# Altium integrated library TI_Logic_Flip-Flop,Latch,Register.IntLib: 2598 symbols (part 81 of 122)
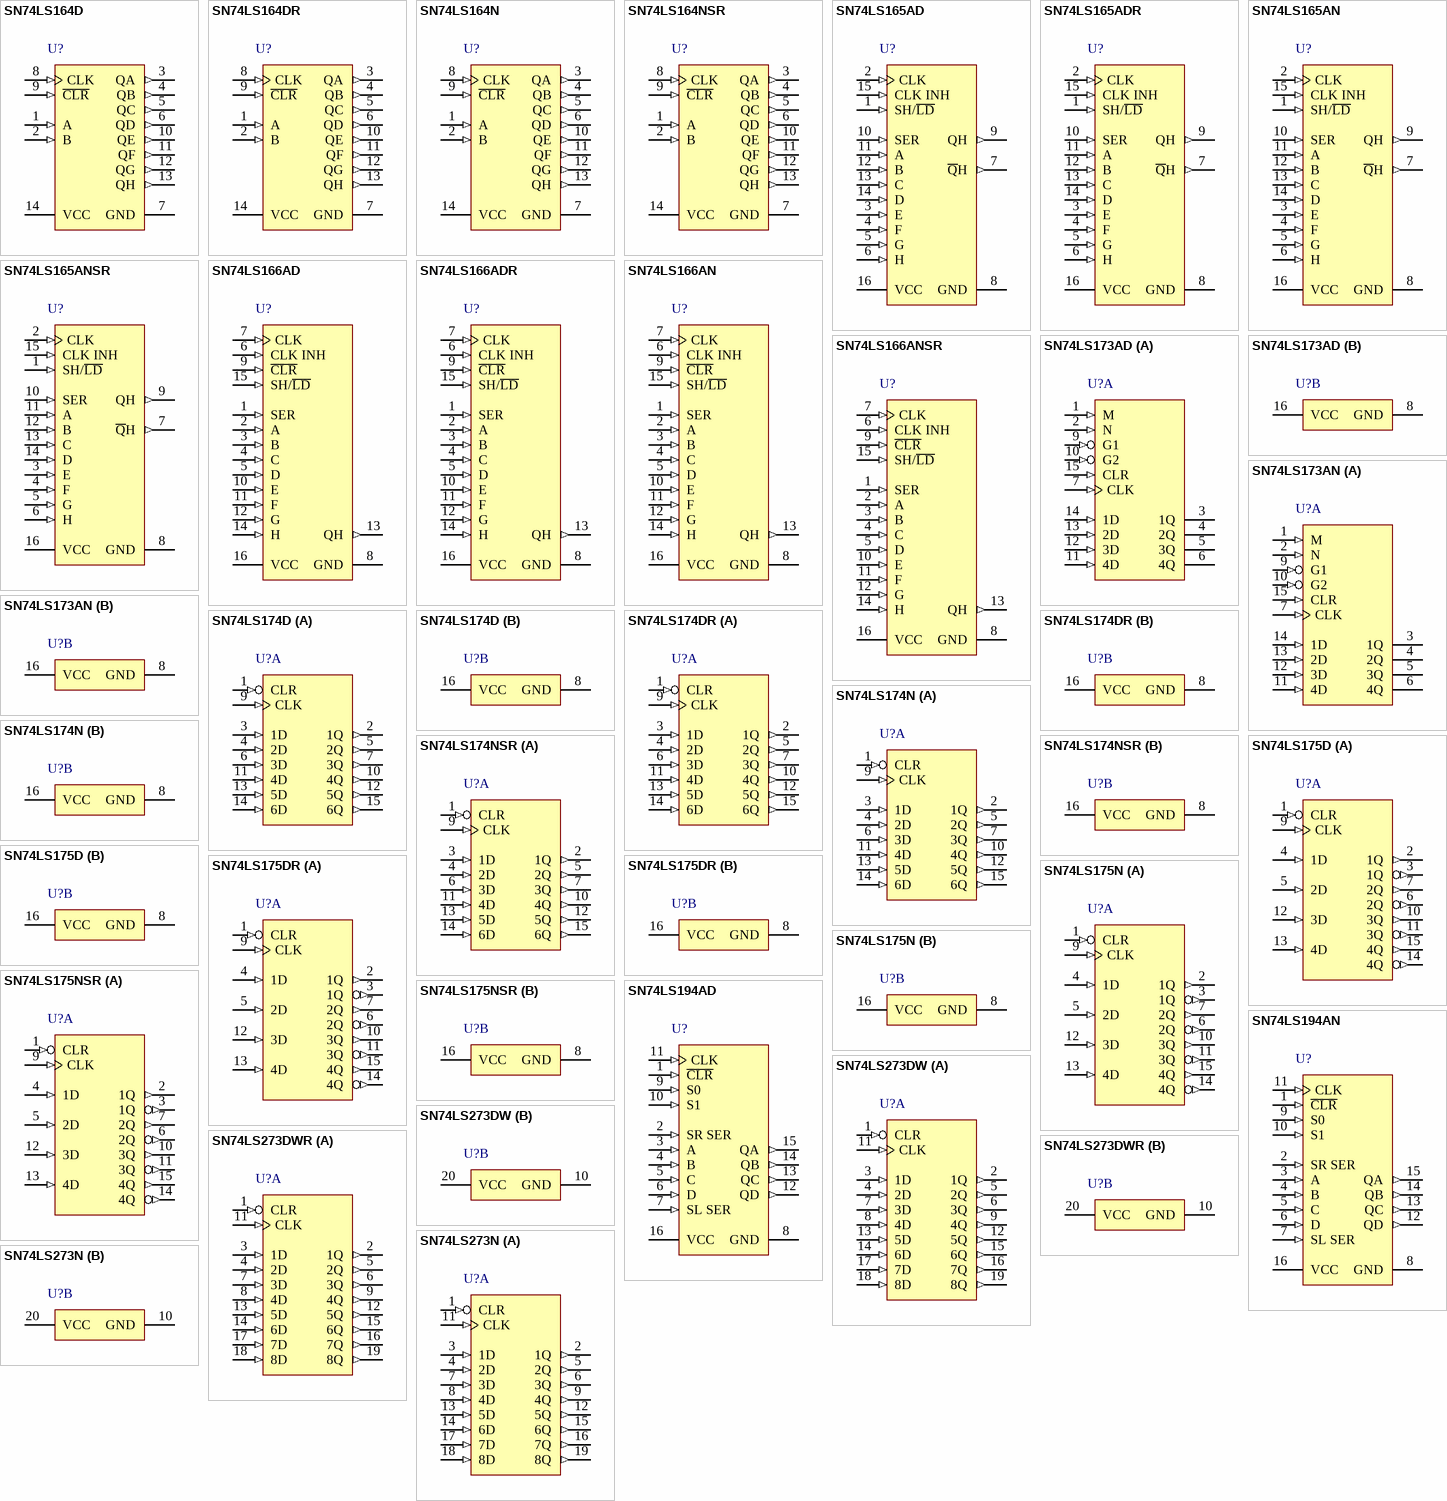
[diagram p219: symbols SN74LS164D to SN74LS273N]

## SN74LS166AN
designator U?
Serial-out shift registers, N0016A, TUBE; Generic Part Number: SN74LS166A; Manufacturer: Texas Instruments; PartNumber: SN74LS166AN; Technology Family: LS; VCC(Min)(V): 4.75; VCC(Max)(V): 5.25; Voltage(Nom)(V): 5; F @ Nom Voltage(Max)(Mhz): 35; ICC @ Nom Voltage(Max)(mA): 32; tpd @ Nom Voltage(Max)(ns): 25; Output Drive (IOL/IOH)(Max)(mA): 8/-0.4; Input Type: TTL; 3-State Output: No; Rating: Catalog; Bits: 8; PackageReference: N0016A; Output Type: TTL; Operating Temperature Range(C): 0 to 70; Code_JEDEC: MS-001; ComponentLink1Description: Manufacturer URL; ComponentLink1URL: http://www.ti.com/; ComponentLink2Description: Datasheet; ComponentLink2URL: http://www.ti.com/lit/ds/symlink/sn74ls166a.pdf; ComponentLink3Description: Package Specification; ComponentLink3URL: http://www.ti.com/lit/ml/mpdi002c/mpdi002c.pdf
footprint N0016A (DIP, 16-Leads, Body 19.7x6.6mm, Pitch 2.54mm)
pins: 1 SER (in), 2 A (in), 3 B (in), 4 C (in), 5 D (in), 6 CLK INH (in), 7 CLK (in), 8 GND (power), 9 ~{CLR} (in), 10 E (in), 11 F (in), 12 G (in), 13 QH (out), 14 H (in), 15 SH/~{LD} (in), 16 VCC (power)

## SN74LS166ANSR
designator U?
Serial-out shift registers, NS0016A, LARGE T&R; Generic Part Number: SN74LS166A; Manufacturer: Texas Instruments; PartNumber: SN74LS166ANSR; Technology Family: LS; VCC(Min)(V): 4.75; VCC(Max)(V): 5.25; Voltage(Nom)(V): 5; F @ Nom Voltage(Max)(Mhz): 35; ICC @ Nom Voltage(Max)(mA): 32; tpd @ Nom Voltage(Max)(ns): 25; Output Drive (IOL/IOH)(Max)(mA): 8/-0.4; Input Type: TTL; 3-State Output: No; Rating: Catalog; Bits: 8; PackageReference: NS0016A; Output Type: TTL; Operating Temperature Range(C): 0 to 70; ComponentLink1Description: Manufacturer URL; ComponentLink1URL: http://www.ti.com/; ComponentLink2Description: Datasheet; ComponentLink2URL: http://www.ti.com/lit/ds/symlink/sn74ls166a.pdf; ComponentLink3Description: Package Specification; ComponentLink3URL: http://www.ti.com/lit/ml/msop002a/msop002a.pdf
footprint NS0016A_N (SOIC,16-Leads,Body 10.5x5.6mm,Pitch 1.27mm,IPC Medium Density)
footprint NS0016A_M (SOIC,16-Leads,Body 10.5x5.6mm,Pitch 1.27mm,IPC Low Density)
footprint NS0016A_L (SOIC,16-Leads,Body 10.5x5.6mm,Pitch 1.27mm,IPC High Density)
pins: 1 SER (in), 2 A (in), 3 B (in), 4 C (in), 5 D (in), 6 CLK INH (in), 7 CLK (in), 8 GND (power), 9 ~{CLR} (in), 10 E (in), 11 F (in), 12 G (in), 13 QH (out), 14 H (in), 15 SH/~{LD} (in), 16 VCC (power)

## SN74LS173AD
designator U?
4-Bit D-type Registers with 3-State Outputs, D0016A, TUBE; Generic Part Number: SN74LS173A; Manufacturer: Texas Instruments; PartNumber: SN74LS173AD; VCC(Min)(V): 4.75; VCC(Max)(V): 5.25; Output Type: TTL; Output: 3S; ICC @ Nom Voltage(Max)(mA): 24; Bits(#): 4; F @ Nom Voltage(Max)(Mhz): 35; Rating: Catalog; Technology Family: LS; Voltage(Nom)(V): 5; Schmitt Trigger: No; Output Drive (IOL/IOH)(Max)(mA): 24/-2.6; Output Logic: Non-inverted; 3-State Output: Yes; tpd @ Nom Voltage(Max)(ns): 30; DatasheetVersion: SDLS067A; PackageReference: D0016A; Supplier 1: Digi-Key; Supplier Part Number 1: 296-33969-5-ND; Supplier 2: Farnell; Supplier Part Number 2: 1750242; Supplier 3: Mouser; Supplier Part Number 3: 595-SN74LS173AD; Input Type: TTL; Operating Temperature Range(C): 0 to 70; Code_JEDEC: MS-012 variation AC; ComponentLink1Description: Manufacturer URL; ComponentLink1URL: http://www.ti.com/; ComponentLink2Description: Datasheet; ComponentLink2URL: http://www.ti.com/lit/ds/symlink/sn74ls173a.pdf; ComponentLink3Description: Package Specification; ComponentLink3URL: http://www.ti.com/lit/ml/mpds178g/mpds178g.pdf
footprint D0016A_N (SOIC, 16-Leads, Body 10x4mm, Pitch 1.27mm, IPC Medium Density)
footprint D0016A_M (SOIC, 16-Leads, Body 10x4mm, Pitch 1.27mm, IPC Low Density)
footprint D0016A_L (SOIC, 16-Leads, Body 10x4mm, Pitch 1.27mm, IPC High Density)
part A pins: 1 M (in), 2 N (in), 3 1Q (hiz), 4 2Q (hiz), 5 3Q (hiz), 6 4Q (hiz), 7 CLK (in), 9 G1 (in), 10 G2 (in), 11 4D (in), 12 3D (in), 13 2D (in), 14 1D (in), 15 CLR (in)
part B pins: 8 GND (power), 16 VCC (power)

## SN74LS173AN
designator U?
4-Bit D-type Registers with 3-State Outputs, N0016A, TUBE; Generic Part Number: SN74LS173A; Manufacturer: Texas Instruments; PartNumber: SN74LS173AN; VCC(Min)(V): 4.75; VCC(Max)(V): 5.25; Output Type: TTL; Output: 3S; ICC @ Nom Voltage(Max)(mA): 24; Bits(#): 4; F @ Nom Voltage(Max)(Mhz): 35; Rating: Catalog; Technology Family: LS; Voltage(Nom)(V): 5; Schmitt Trigger: No; Output Drive (IOL/IOH)(Max)(mA): 24/-2.6; Output Logic: Non-inverted; 3-State Output: Yes; tpd @ Nom Voltage(Max)(ns): 30; DatasheetVersion: SDLS067A; PackageReference: N0016A; Supplier 1: Digi-Key; Supplier Part Number 1: 296-33970-5-ND; Supplier 2: Farnell; Supplier Part Number 2: 1740121; Supplier 3: Newark; Supplier Part Number 3: 50R6527; Supplier 4: Mouser; Supplier Part Number 4: 595-SN74LS173AN; Input Type: TTL; Operating Temperature Range(C): 0 to 70; Code_JEDEC: MS-001; ComponentLink1Description: Manufacturer URL; ComponentLink1URL: http://www.ti.com/; ComponentLink2Description: Datasheet; ComponentLink2URL: http://www.ti.com/lit/ds/symlink/sn74ls173a.pdf; ComponentLink3Description: Package Specification; ComponentLink3URL: http://www.ti.com/lit/ml/mpdi002c/mpdi002c.pdf
footprint N0016A (DIP, 16-Leads, Body 19.7x6.6mm, Pitch 2.54mm)
part A pins: 1 M (in), 2 N (in), 3 1Q (hiz), 4 2Q (hiz), 5 3Q (hiz), 6 4Q (hiz), 7 CLK (in), 9 G1 (in), 10 G2 (in), 11 4D (in), 12 3D (in), 13 2D (in), 14 1D (in), 15 CLR (in)
part B pins: 8 GND (power), 16 VCC (power)

## SN74LS174D
designator U?
Hex D-Type Flip-Flops With Clear, D0016A, TUBE; Generic Part Number: SN74LS174; Manufacturer: Texas Instruments; PartNumber: SN74LS174D; VCC(Min)(V): 4.75; VCC(Max)(V): 5.25; Output Type: TTL; Output: 2S; ICC @ Nom Voltage(Max)(mA): 26; Bits(#): 6; F @ Nom Voltage(Max)(Mhz): 35; Rating: Catalog; Technology Family: LS; Voltage(Nom)(V): 5; Schmitt Trigger: No; Output Drive (IOL/IOH)(Max)(mA): 8/-0.4; Output Logic: Inverted,Non-inverted; tpd @ Nom Voltage(Max)(ns): 30; DatasheetVersion: SDLS068A; PackageReference: D0016A; Supplier 1: Digi-Key; Supplier Part Number 1: 296-33971-5-ND; Supplier 2: Farnell; Supplier Part Number 2: 1750034; Supplier 3: Newark; Supplier Part Number 3: 50R6528; Supplier 4: Mouser; Supplier Part Number 4: 595-SN74LS174D; Input Type: TTL; Operating Temperature Range(C): 0 to 70; 3-State Output: No; Code_JEDEC: MS-012 variation AC; ComponentLink1Description: Manufacturer URL; ComponentLink1URL: http://www.ti.com/; ComponentLink2Description: Datasheet; ComponentLink2URL: http://www.ti.com/lit/ds/symlink/sn74ls174.pdf; ComponentLink3Description: Package Specification; ComponentLink3URL: http://www.ti.com/lit/ml/mpds178g/mpds178g.pdf
footprint D0016A_N (SOIC, 16-Leads, Body 10x4mm, Pitch 1.27mm, IPC Medium Density)
footprint D0016A_M (SOIC, 16-Leads, Body 10x4mm, Pitch 1.27mm, IPC Low Density)
footprint D0016A_L (SOIC, 16-Leads, Body 10x4mm, Pitch 1.27mm, IPC High Density)
part A pins: 1 CLR (in), 2 1Q (out), 3 1D (in), 4 2D (in), 5 2Q (out), 6 3D (in), 7 3Q (out), 9 CLK (in), 10 4Q (out), 11 4D (in), 12 5Q (out), 13 5D (in), 14 6D (in), 15 6Q (out)
part B pins: 8 GND (power), 16 VCC (power)

## SN74LS174DR
designator U?
Hex D-Type Flip-Flops With Clear, D0016A, LARGE T&R; Generic Part Number: SN74LS174; Manufacturer: Texas Instruments; PartNumber: SN74LS174DR; VCC(Min)(V): 4.75; VCC(Max)(V): 5.25; Output Type: TTL; Output: 2S; ICC @ Nom Voltage(Max)(mA): 26; Bits(#): 6; F @ Nom Voltage(Max)(Mhz): 35; Rating: Catalog; Technology Family: LS; Voltage(Nom)(V): 5; Schmitt Trigger: No; Output Drive (IOL/IOH)(Max)(mA): 8/-0.4; Output Logic: Inverted,Non-inverted; tpd @ Nom Voltage(Max)(ns): 30; DatasheetVersion: SDLS068A; PackageReference: D0016A; Supplier 1: Digi-Key; Supplier Part Number 1: SN74LS174DR-ND; Supplier 2: Mouser; Supplier Part Number 2: 595-SN74LS174DR; Input Type: TTL; Operating Temperature Range(C): 0 to 70; 3-State Output: No; Code_JEDEC: MS-012 variation AC; ComponentLink1Description: Manufacturer URL; ComponentLink1URL: http://www.ti.com/; ComponentLink2Description: Datasheet; ComponentLink2URL: http://www.ti.com/lit/ds/symlink/sn74ls174.pdf; ComponentLink3Description: Package Specification; ComponentLink3URL: http://www.ti.com/lit/ml/mpds178g/mpds178g.pdf
footprint D0016A_N (SOIC, 16-Leads, Body 10x4mm, Pitch 1.27mm, IPC Medium Density)
footprint D0016A_M (SOIC, 16-Leads, Body 10x4mm, Pitch 1.27mm, IPC Low Density)
footprint D0016A_L (SOIC, 16-Leads, Body 10x4mm, Pitch 1.27mm, IPC High Density)
part A pins: 1 CLR (in), 2 1Q (out), 3 1D (in), 4 2D (in), 5 2Q (out), 6 3D (in), 7 3Q (out), 9 CLK (in), 10 4Q (out), 11 4D (in), 12 5Q (out), 13 5D (in), 14 6D (in), 15 6Q (out)
part B pins: 8 GND (power), 16 VCC (power)

## SN74LS174N
designator U?
Hex D-Type Flip-Flops With Clear, N0016A, TUBE; Generic Part Number: SN74LS174; Manufacturer: Texas Instruments; PartNumber: SN74LS174N; VCC(Min)(V): 4.75; VCC(Max)(V): 5.25; Output Type: TTL; Output: 2S; ICC @ Nom Voltage(Max)(mA): 26; Bits(#): 6; F @ Nom Voltage(Max)(Mhz): 35; Rating: Catalog; Technology Family: LS; Voltage(Nom)(V): 5; Schmitt Trigger: No; Output Drive (IOL/IOH)(Max)(mA): 8/-0.4; Output Logic: Inverted,Non-inverted; tpd @ Nom Voltage(Max)(ns): 30; DatasheetVersion: SDLS068A; PackageReference: N0016A; Supplier 1: Digi-Key; Supplier Part Number 1: 296-3664-5-ND; Supplier 2: Farnell; Supplier Part Number 2: 1652029; Supplier 3: Newark; Supplier Part Number 3: 63K6343; Supplier 4: Mouser; Supplier Part Number 4: 595-SN74LS174N; Input Type: TTL; Operating Temperature Range(C): 0 to 70; 3-State Output: No; Code_JEDEC: MS-001; ComponentLink1Description: Manufacturer URL; ComponentLink1URL: http://www.ti.com/; ComponentLink2Description: Datasheet; ComponentLink2URL: http://www.ti.com/lit/ds/symlink/sn74ls174.pdf; ComponentLink3Description: Package Specification; ComponentLink3URL: http://www.ti.com/lit/ml/mpdi002c/mpdi002c.pdf
footprint N0016A (DIP, 16-Leads, Body 19.7x6.6mm, Pitch 2.54mm)
part A pins: 1 CLR (in), 2 1Q (out), 3 1D (in), 4 2D (in), 5 2Q (out), 6 3D (in), 7 3Q (out), 9 CLK (in), 10 4Q (out), 11 4D (in), 12 5Q (out), 13 5D (in), 14 6D (in), 15 6Q (out)
part B pins: 8 GND (power), 16 VCC (power)

## SN74LS174NSR
designator U?
Hex D-Type Flip-Flops With Clear, NS0016A, LARGE T&R; Generic Part Number: SN74LS174; Manufacturer: Texas Instruments; PartNumber: SN74LS174NSR; VCC(Min)(V): 4.75; VCC(Max)(V): 5.25; Output Type: TTL; Output: 2S; ICC @ Nom Voltage(Max)(mA): 26; Bits(#): 6; F @ Nom Voltage(Max)(Mhz): 35; Rating: Catalog; Technology Family: LS; Voltage(Nom)(V): 5; Schmitt Trigger: No; Output Drive (IOL/IOH)(Max)(mA): 8/-0.4; Output Logic: Inverted,Non-inverted; tpd @ Nom Voltage(Max)(ns): 30; DatasheetVersion: SDLS068A; PackageReference: NS0016A; Supplier 1: Digi-Key; Supplier Part Number 1: 296-28877-2-ND; Supplier 2: Digi-Key; Supplier Part Number 2: 296-28877-1-ND; Supplier 3: Digi-Key; Supplier Part Number 3: 296-28877-6-ND; Supplier 4: Mouser; Supplier Part Number 4: 595-SN74LS174NSR; Input Type: TTL; Operating Temperature Range(C): 0 to 70; 3-State Output: No; ComponentLink1Description: Manufacturer URL; ComponentLink1URL: http://www.ti.com/; ComponentLink2Description: Datasheet; ComponentLink2URL: http://www.ti.com/lit/ds/symlink/sn74ls174.pdf; ComponentLink3Description: Package Specification; ComponentLink3URL: http://www.ti.com/lit/ml/msop002a/msop002a.pdf
footprint NS0016A_N (SOIC,16-Leads,Body 10.5x5.6mm,Pitch 1.27mm,IPC Medium Density)
footprint NS0016A_M (SOIC,16-Leads,Body 10.5x5.6mm,Pitch 1.27mm,IPC Low Density)
footprint NS0016A_L (SOIC,16-Leads,Body 10.5x5.6mm,Pitch 1.27mm,IPC High Density)
part A pins: 1 CLR (in), 2 1Q (out), 3 1D (in), 4 2D (in), 5 2Q (out), 6 3D (in), 7 3Q (out), 9 CLK (in), 10 4Q (out), 11 4D (in), 12 5Q (out), 13 5D (in), 14 6D (in), 15 6Q (out)
part B pins: 8 GND (power), 16 VCC (power)

## SN74LS175D
designator U?
Quadruple D-Type Flip-Flops With Clear, D0016A, TUBE; Generic Part Number: SN74LS175; Manufacturer: Texas Instruments; PartNumber: SN74LS175D; VCC(Min)(V): 4.75; VCC(Max)(V): 5.25; Output Type: TTL; Output: 2S; ICC @ Nom Voltage(Max)(mA): 18; Bits(#): 4; F @ Nom Voltage(Max)(Mhz): 35; Rating: Catalog; Technology Family: LS; Voltage(Nom)(V): 5; Schmitt Trigger: No; Output Drive (IOL/IOH)(Max)(mA): 8/-0.4; Output Logic: Inverted,Non-inverted; tpd @ Nom Voltage(Max)(ns): 25; DatasheetVersion: SDLS068A; PackageReference: D0016A; Supplier 1: Digi-Key; Supplier Part Number 1: 296-33972-5-ND; Supplier 2: Farnell; Supplier Part Number 2: 1750035; Supplier 3: Newark; Supplier Part Number 3: 08F6923; Supplier 4: Mouser; Supplier Part Number 4: 595-SN74LS175D; Input Type: TTL; Operating Temperature Range(C): 0 to 70; 3-State Output: No; Code_JEDEC: MS-012 variation AC; ComponentLink1Description: Manufacturer URL; ComponentLink1URL: http://www.ti.com/; ComponentLink2Description: Datasheet; ComponentLink2URL: http://www.ti.com/lit/ds/symlink/sn74ls175.pdf; ComponentLink3Description: Package Specification; ComponentLink3URL: http://www.ti.com/lit/ml/mpds178g/mpds178g.pdf
footprint D0016A_N (SOIC, 16-Leads, Body 10x4mm, Pitch 1.27mm, IPC Medium Density)
footprint D0016A_M (SOIC, 16-Leads, Body 10x4mm, Pitch 1.27mm, IPC Low Density)
footprint D0016A_L (SOIC, 16-Leads, Body 10x4mm, Pitch 1.27mm, IPC High Density)
part A pins: 1 CLR (in), 2 1Q (out), 3 1Q (out), 4 1D (in), 5 2D (in), 6 2Q (out), 7 2Q (out), 9 CLK (in), 10 3Q (out), 11 3Q (out), 12 3D (in), 13 4D (in), 14 4Q (out), 15 4Q (out)
part B pins: 8 GND (power), 16 VCC (power)

## SN74LS175DR
designator U?
Quadruple D-Type Flip-Flops With Clear, D0016A, LARGE T&R; Generic Part Number: SN74LS175; Manufacturer: Texas Instruments; PartNumber: SN74LS175DR; VCC(Min)(V): 4.75; VCC(Max)(V): 5.25; Output Type: TTL; Output: 2S; ICC @ Nom Voltage(Max)(mA): 18; Bits(#): 4; F @ Nom Voltage(Max)(Mhz): 35; Rating: Catalog; Technology Family: LS; Voltage(Nom)(V): 5; Schmitt Trigger: No; Output Drive (IOL/IOH)(Max)(mA): 8/-0.4; Output Logic: Inverted,Non-inverted; tpd @ Nom Voltage(Max)(ns): 25; DatasheetVersion: SDLS068A; PackageReference: D0016A; Supplier 1: Digi-Key; Supplier Part Number 1: 296-31855-2-ND; Supplier 2: Digi-Key; Supplier Part Number 2: 296-31855-1-ND; Supplier 3: Digi-Key; Supplier Part Number 3: 296-31855-6-ND; Supplier 4: Mouser; Supplier Part Number 4: 595-SN74LS175DR; Input Type: TTL; Operating Temperature Range(C): 0 to 70; 3-State Output: No; Code_JEDEC: MS-012 variation AC; ComponentLink1Description: Manufacturer URL; ComponentLink1URL: http://www.ti.com/; ComponentLink2Description: Datasheet; ComponentLink2URL: http://www.ti.com/lit/ds/symlink/sn74ls175.pdf; ComponentLink3Description: Package Specification; ComponentLink3URL: http://www.ti.com/lit/ml/mpds178g/mpds178g.pdf
footprint D0016A_N (SOIC, 16-Leads, Body 10x4mm, Pitch 1.27mm, IPC Medium Density)
footprint D0016A_M (SOIC, 16-Leads, Body 10x4mm, Pitch 1.27mm, IPC Low Density)
footprint D0016A_L (SOIC, 16-Leads, Body 10x4mm, Pitch 1.27mm, IPC High Density)
part A pins: 1 CLR (in), 2 1Q (out), 3 1Q (out), 4 1D (in), 5 2D (in), 6 2Q (out), 7 2Q (out), 9 CLK (in), 10 3Q (out), 11 3Q (out), 12 3D (in), 13 4D (in), 14 4Q (out), 15 4Q (out)
part B pins: 8 GND (power), 16 VCC (power)

## SN74LS175N
designator U?
Quadruple D-Type Flip-Flops With Clear, N0016A, TUBE; Generic Part Number: SN74LS175; Manufacturer: Texas Instruments; PartNumber: SN74LS175N; VCC(Min)(V): 4.75; VCC(Max)(V): 5.25; Output Type: TTL; Output: 2S; ICC @ Nom Voltage(Max)(mA): 18; Bits(#): 4; F @ Nom Voltage(Max)(Mhz): 35; Rating: Catalog; Technology Family: LS; Voltage(Nom)(V): 5; Schmitt Trigger: No; Output Drive (IOL/IOH)(Max)(mA): 8/-0.4; Output Logic: Inverted,Non-inverted; tpd @ Nom Voltage(Max)(ns): 25; DatasheetVersion: SDLS068A; PackageReference: N0016A; Supplier 1: Digi-Key; Supplier Part Number 1: 296-1648-5-ND; Supplier 2: Farnell; Supplier Part Number 2: 1607731; Supplier 3: Newark; Supplier Part Number 3: 08F6926; Supplier 4: Mouser; Supplier Part Number 4: 595-SN74LS175N; Input Type: TTL; Operating Temperature Range(C): 0 to 70; 3-State Output: No; Code_JEDEC: MS-001; ComponentLink1Description: Manufacturer URL; ComponentLink1URL: http://www.ti.com/; ComponentLink2Description: Datasheet; ComponentLink2URL: http://www.ti.com/lit/ds/symlink/sn74ls175.pdf; ComponentLink3Description: Package Specification; ComponentLink3URL: http://www.ti.com/lit/ml/mpdi002c/mpdi002c.pdf
footprint N0016A (DIP, 16-Leads, Body 19.7x6.6mm, Pitch 2.54mm)
part A pins: 1 CLR (in), 2 1Q (out), 3 1Q (out), 4 1D (in), 5 2D (in), 6 2Q (out), 7 2Q (out), 9 CLK (in), 10 3Q (out), 11 3Q (out), 12 3D (in), 13 4D (in), 14 4Q (out), 15 4Q (out)
part B pins: 8 GND (power), 16 VCC (power)

## SN74LS175NSR
designator U?
Quadruple D-Type Flip-Flops With Clear, NS0016A, LARGE T&R; Generic Part Number: SN74LS175; Manufacturer: Texas Instruments; PartNumber: SN74LS175NSR; VCC(Min)(V): 4.75; VCC(Max)(V): 5.25; Output Type: TTL; Output: 2S; ICC @ Nom Voltage(Max)(mA): 18; Bits(#): 4; F @ Nom Voltage(Max)(Mhz): 35; Rating: Catalog; Technology Family: LS; Voltage(Nom)(V): 5; Schmitt Trigger: No; Output Drive (IOL/IOH)(Max)(mA): 8/-0.4; Output Logic: Inverted,Non-inverted; tpd @ Nom Voltage(Max)(ns): 25; DatasheetVersion: SDLS068A; PackageReference: NS0016A; Supplier 1: Digi-Key; Supplier Part Number 1: 296-28719-2-ND; Supplier 2: Digi-Key; Supplier Part Number 2: 296-28719-1-ND; Supplier 3: Digi-Key; Supplier Part Number 3: 296-28719-6-ND; Supplier 4: Mouser; Supplier Part Number 4: 595-SN74LS175NSR; Input Type: TTL; Operating Temperature Range(C): 0 to 70; 3-State Output: No; ComponentLink1Description: Manufacturer URL; ComponentLink1URL: http://www.ti.com/; ComponentLink2Description: Datasheet; ComponentLink2URL: http://www.ti.com/lit/ds/symlink/sn74ls175.pdf; ComponentLink3Description: Package Specification; ComponentLink3URL: http://www.ti.com/lit/ml/msop002a/msop002a.pdf
footprint NS0016A_N (SOIC,16-Leads,Body 10.5x5.6mm,Pitch 1.27mm,IPC Medium Density)
footprint NS0016A_M (SOIC,16-Leads,Body 10.5x5.6mm,Pitch 1.27mm,IPC Low Density)
footprint NS0016A_L (SOIC,16-Leads,Body 10.5x5.6mm,Pitch 1.27mm,IPC High Density)
part A pins: 1 CLR (in), 2 1Q (out), 3 1Q (out), 4 1D (in), 5 2D (in), 6 2Q (out), 7 2Q (out), 9 CLK (in), 10 3Q (out), 11 3Q (out), 12 3D (in), 13 4D (in), 14 4Q (out), 15 4Q (out)
part B pins: 8 GND (power), 16 VCC (power)

## SN74LS194AD
designator U?
Bidirectional universal shift registers, D0016A, TUBE; Generic Part Number: SN74LS194A; Manufacturer: Texas Instruments; PartNumber: SN74LS194AD; Technology Family: LS; VCC(Min)(V): 4.75; VCC(Max)(V): 5.25; Voltage(Nom)(V): 5; F @ Nom Voltage(Max)(Mhz): 35; ICC @ Nom Voltage(Max)(mA): 23; tpd @ Nom Voltage(Max)(ns): 26; Output Drive (IOL/IOH)(Max)(mA): 8/-0.4; Input Type: TTL; 3-State Output: No; Rating: Catalog; Bits: 8; DatasheetVersion: SDLS075; PackageReference: D0016A; Output Type: TTL; Operating Temperature Range(C): 0 to 70; Code_JEDEC: MS-012 variation AC; ComponentLink1Description: Manufacturer URL; ComponentLink1URL: http://www.ti.com/; ComponentLink2Description: Datasheet; ComponentLink2URL: http://www.ti.com/lit/ds/symlink/sn74ls194a.pdf; ComponentLink3Description: Package Specification; ComponentLink3URL: http://www.ti.com/lit/ml/mpds178g/mpds178g.pdf
footprint D0016A_N (SOIC, 16-Leads, Body 10x4mm, Pitch 1.27mm, IPC Medium Density)
footprint D0016A_M (SOIC, 16-Leads, Body 10x4mm, Pitch 1.27mm, IPC Low Density)
footprint D0016A_L (SOIC, 16-Leads, Body 10x4mm, Pitch 1.27mm, IPC High Density)
pins: 1 ~{CLR} (in), 2 SR SER (in), 3 A (in), 4 B (in), 5 C (in), 6 D (in), 7 SL SER (in), 8 GND (power), 9 S0 (in), 10 S1 (in), 11 CLK (in), 12 QD (out), 13 QC (out), 14 QB (out), 15 QA (out), 16 VCC (power)

## SN74LS194AN
designator U?
Bidirectional universal shift registers, N0016A, TUBE; Generic Part Number: SN74LS194A; Manufacturer: Texas Instruments; PartNumber: SN74LS194AN; Technology Family: LS; VCC(Min)(V): 4.75; VCC(Max)(V): 5.25; Voltage(Nom)(V): 5; F @ Nom Voltage(Max)(Mhz): 35; ICC @ Nom Voltage(Max)(mA): 23; tpd @ Nom Voltage(Max)(ns): 26; Output Drive (IOL/IOH)(Max)(mA): 8/-0.4; Input Type: TTL; 3-State Output: No; Rating: Catalog; Bits: 8; DatasheetVersion: SDLS075; PackageReference: N0016A; Output Type: TTL; Operating Temperature Range(C): 0 to 70; Code_JEDEC: MS-001; ComponentLink1Description: Manufacturer URL; ComponentLink1URL: http://www.ti.com/; ComponentLink2Description: Datasheet; ComponentLink2URL: http://www.ti.com/lit/ds/symlink/sn74ls194a.pdf; ComponentLink3Description: Package Specification; ComponentLink3URL: http://www.ti.com/lit/ml/mpdi002c/mpdi002c.pdf
footprint N0016A (DIP, 16-Leads, Body 19.7x6.6mm, Pitch 2.54mm)
pins: 1 ~{CLR} (in), 2 SR SER (in), 3 A (in), 4 B (in), 5 C (in), 6 D (in), 7 SL SER (in), 8 GND (power), 9 S0 (in), 10 S1 (in), 11 CLK (in), 12 QD (out), 13 QC (out), 14 QB (out), 15 QA (out), 16 VCC (power)

## SN74LS273DW
designator U?
Octal D-Type Flip-Flops With Clear, DW0020A, TUBE; Generic Part Number: SN74LS273; Manufacturer: Texas Instruments; PartNumber: SN74LS273DW; VCC(Min)(V): 4.75; VCC(Max)(V): 5.25; Output Type: TTL; Output: 2S; ICC @ Nom Voltage(Max)(mA): 27; Bits(#): 8; F @ Nom Voltage(Max)(Mhz): 35; Rating: Catalog; Technology Family: LS; Voltage(Nom)(V): 5; Schmitt Trigger: No; Output Drive (IOL/IOH)(Max)(mA): 8/-0.4; Output Logic: Non-inverted; DatasheetVersion: SDLS090; PackageReference: DW0020A; Supplier 1: Digi-Key; Supplier Part Number 1: 296-26512-5-ND; Supplier 2: Farnell; Supplier Part Number 2: 1287537; Supplier 3: Newark; Supplier Part Number 3: 08F7145; Supplier 4: Mouser; Supplier Part Number 4: 595-SN74LS273DW; Input Type: TTL; Operating Temperature Range(C): 0 to 70; 3-State Output: No; tpd @ Nom Voltage(Max)(ns): 27; Code_JEDEC: MS-013; ComponentLink1Description: Manufacturer URL; ComponentLink1URL: http://www.ti.com/; ComponentLink2Description: Datasheet; ComponentLink2URL: http://www.ti.com/lit/ds/symlink/sn74ls273.pdf; ComponentLink3Description: Package Specification; ComponentLink3URL: http://www.ti.com/lit/ml/mpds173a/mpds173a.pdf
footprint DW0020A_N (SOIC, 20-Leads, Body 13x7.6mm, Pitch 1.27mm, IPC Medium Density)
footprint DW0020A_M (SOIC, 20-Leads, Body 13x7.6mm, Pitch 1.27mm, IPC Low Density)
footprint DW0020A_L (SOIC, 20-Leads, Body 13x7.6mm, Pitch 1.27mm, IPC High Density)
part A pins: 1 CLR (in) "Clear Pin", 2 1Q (out) "1Q Output", 3 1D (in) "1D Input", 4 2D (in) "2D Input", 5 2Q (out) "2Q Output", 6 3Q (out) "3Q Output", 7 3D (in) "3D Input", 8 4D (in) "4D Input", 9 4Q (out) "4Q Output", 11 CLK (in) "Clock Pin", 12 5Q (out) "5Q Output", 13 5D (in) "5D Input", 14 6D (in) "6D Input", 15 6Q (out) "6Q Output", 16 7Q (out) "7Q Output", 17 7D (in) "7D Input", 18 8D (in) "8D Input", 19 8Q (out) "8Q Output"
part B pins: 10 GND (power) "Ground Pin", 20 VCC (power) "Power Pin"

## SN74LS273DWR
designator U?
Octal D-Type Flip-Flops With Clear, DW0020A, LARGE T&R; Generic Part Number: SN74LS273; Manufacturer: Texas Instruments; PartNumber: SN74LS273DWR; VCC(Min)(V): 4.75; VCC(Max)(V): 5.25; Output Type: TTL; Output: 2S; ICC @ Nom Voltage(Max)(mA): 27; Bits(#): 8; F @ Nom Voltage(Max)(Mhz): 35; Rating: Catalog; Technology Family: LS; Voltage(Nom)(V): 5; Schmitt Trigger: No; Output Drive (IOL/IOH)(Max)(mA): 8/-0.4; Output Logic: Non-inverted; DatasheetVersion: SDLS090; PackageReference: DW0020A; Supplier 1: Digi-Key; Supplier Part Number 1: 296-3682-2-ND; Supplier 2: Digi-Key; Supplier Part Number 2: 296-3682-1-ND; Supplier 3: Digi-Key; Supplier Part Number 3: 296-3682-6-ND; Supplier 4: Newark; Supplier Part Number 4: 76C3776; Supplier 5: Mouser; Supplier Part Number 5: 595-SN74LS273DWR; Input Type: TTL; Operating Temperature Range(C): 0 to 70; 3-State Output: No; tpd @ Nom Voltage(Max)(ns): 27; Code_JEDEC: MS-013; ComponentLink1Description: Manufacturer URL; ComponentLink1URL: http://www.ti.com/; ComponentLink2Description: Datasheet; ComponentLink2URL: http://www.ti.com/lit/ds/symlink/sn74ls273.pdf; ComponentLink3Description: Package Specification; ComponentLink3URL: http://www.ti.com/lit/ml/mpds173a/mpds173a.pdf
footprint DW0020A_N (SOIC, 20-Leads, Body 13x7.6mm, Pitch 1.27mm, IPC Medium Density)
footprint DW0020A_M (SOIC, 20-Leads, Body 13x7.6mm, Pitch 1.27mm, IPC Low Density)
footprint DW0020A_L (SOIC, 20-Leads, Body 13x7.6mm, Pitch 1.27mm, IPC High Density)
part A pins: 1 CLR (in) "Clear Pin", 2 1Q (out) "1Q Output", 3 1D (in) "1D Input", 4 2D (in) "2D Input", 5 2Q (out) "2Q Output", 6 3Q (out) "3Q Output", 7 3D (in) "3D Input", 8 4D (in) "4D Input", 9 4Q (out) "4Q Output", 11 CLK (in) "Clock Pin", 12 5Q (out) "5Q Output", 13 5D (in) "5D Input", 14 6D (in) "6D Input", 15 6Q (out) "6Q Output", 16 7Q (out) "7Q Output", 17 7D (in) "7D Input", 18 8D (in) "8D Input", 19 8Q (out) "8Q Output"
part B pins: 10 GND (power) "Ground Pin", 20 VCC (power) "Power Pin"

## SN74LS273N
designator U?
Octal D-Type Flip-Flops With Clear, N0020A, TUBE; Generic Part Number: SN74LS273; Manufacturer: Texas Instruments; PartNumber: SN74LS273N; VCC(Min)(V): 4.75; VCC(Max)(V): 5.25; Output Type: TTL; Output: 2S; ICC @ Nom Voltage(Max)(mA): 27; Bits(#): 8; F @ Nom Voltage(Max)(Mhz): 35; Rating: Catalog; Technology Family: LS; Voltage(Nom)(V): 5; Schmitt Trigger: No; Output Drive (IOL/IOH)(Max)(mA): 8/-0.4; Output Logic: Non-inverted; DatasheetVersion: SDLS090; PackageReference: N0020A; Supplier 1: Digi-Key; Supplier Part Number 1: 296-1657-5-ND; Supplier 2: Farnell; Supplier Part Number 2: 1470820; Supplier 3: Newark; Supplier Part Number 3: 60K6876; Supplier 4: Mouser; Supplier Part Number 4: 595-SN74LS273N; Input Type: TTL; Operating Temperature Range(C): 0 to 70; 3-State Output: No; tpd @ Nom Voltage(Max)(ns): 27; Code_JEDEC: MS-001; ComponentLink1Description: Manufacturer URL; ComponentLink1URL: http://www.ti.com/; ComponentLink2Description: Datasheet; ComponentLink2URL: http://www.ti.com/lit/ds/symlink/sn74ls273.pdf; ComponentLink3Description: Package Specification; ComponentLink3URL: http://www.ti.com/lit/ml/mpdi002c/mpdi002c.pdf
footprint N0020A (DIP, 20-Leads, Body 26.9x6.6mm, Pitch 2.54mm)
part A pins: 1 CLR (in) "Clear Pin", 2 1Q (out) "1Q Output", 3 1D (in) "1D Input", 4 2D (in) "2D Input", 5 2Q (out) "2Q Output", 6 3Q (out) "3Q Output", 7 3D (in) "3D Input", 8 4D (in) "4D Input", 9 4Q (out) "4Q Output", 11 CLK (in) "Clock Pin", 12 5Q (out) "5Q Output", 13 5D (in) "5D Input", 14 6D (in) "6D Input", 15 6Q (out) "6Q Output", 16 7Q (out) "7Q Output", 17 7D (in) "7D Input", 18 8D (in) "8D Input", 19 8Q (out) "8Q Output"
part B pins: 10 GND (power) "Ground Pin", 20 VCC (power) "Power Pin"

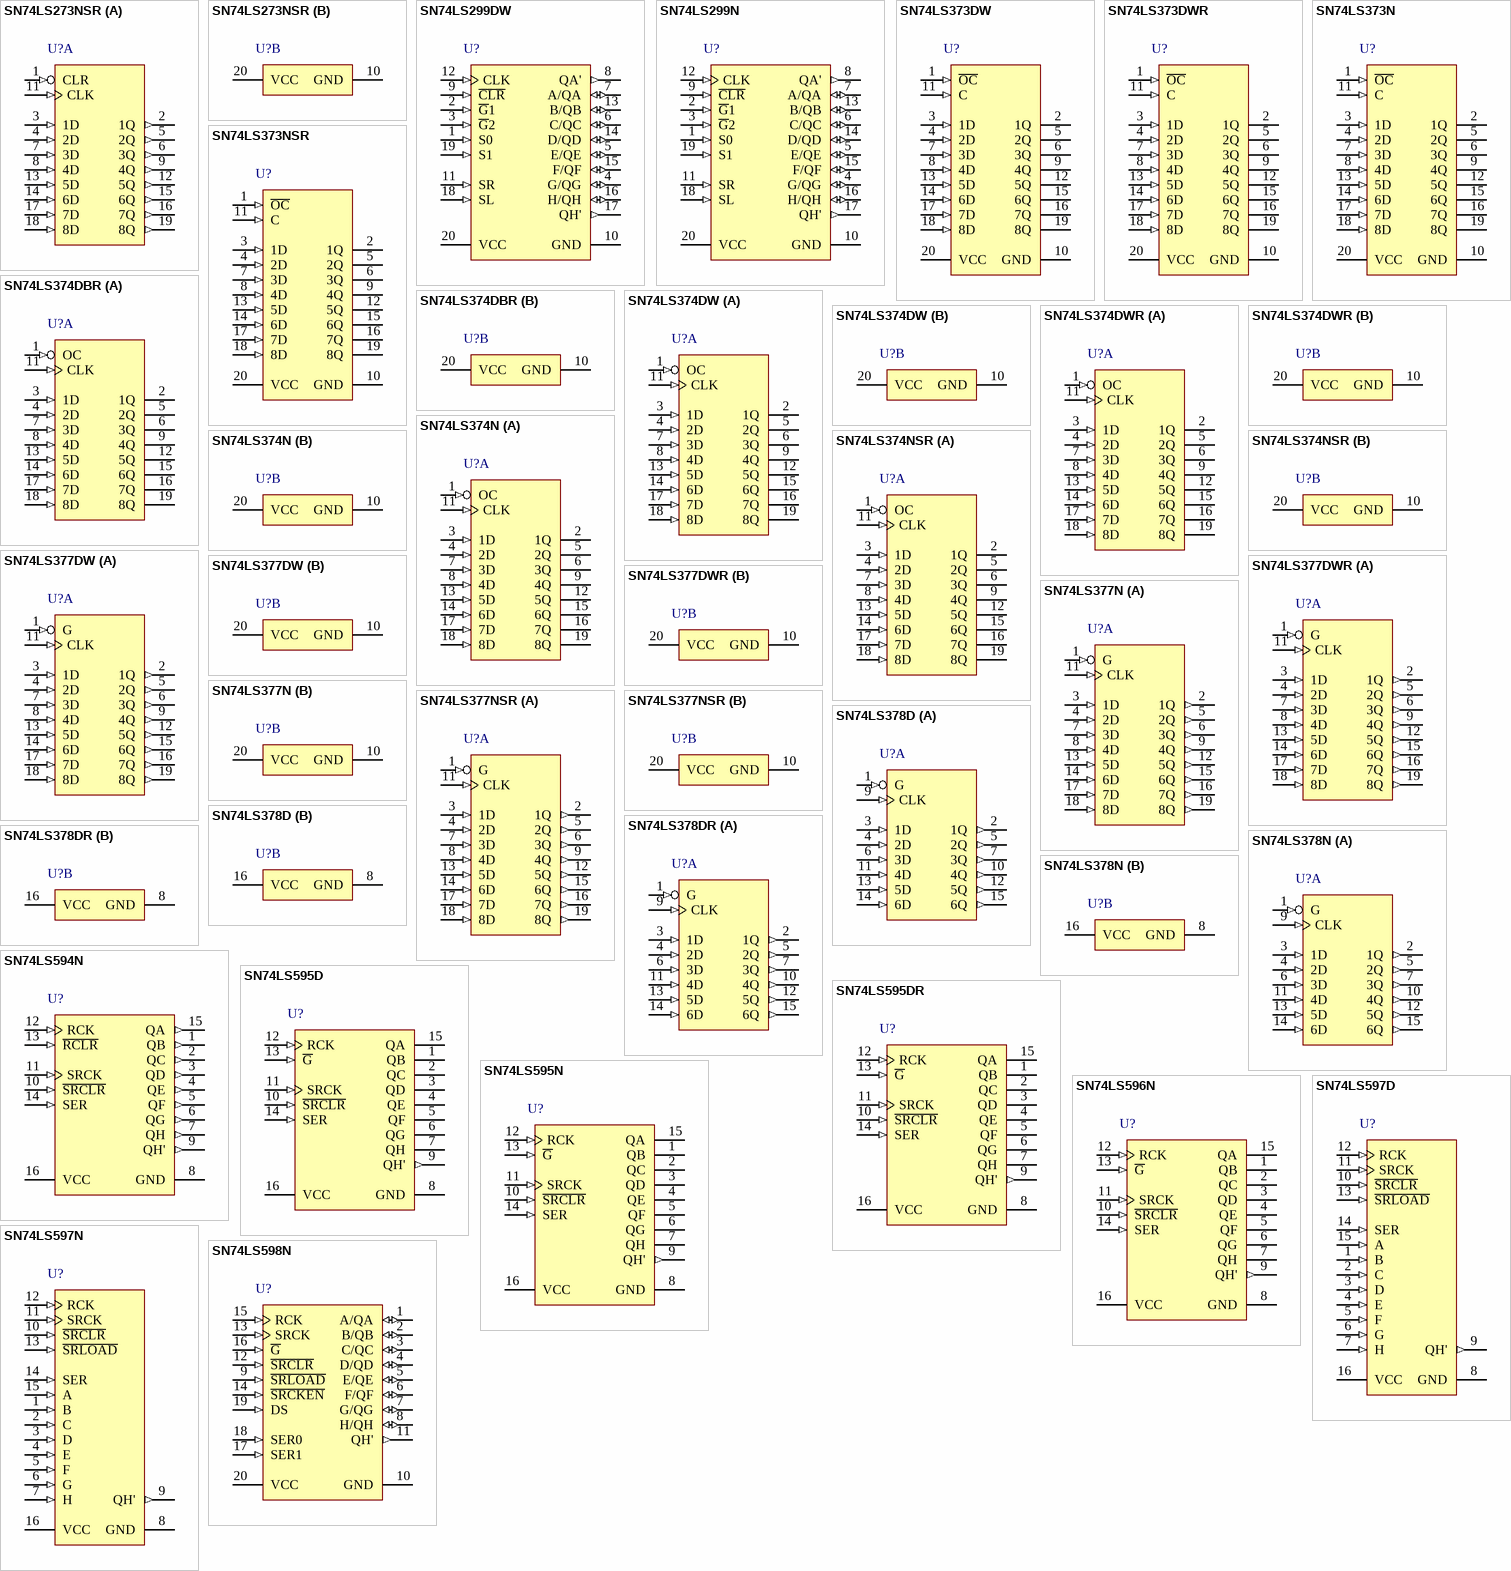
[diagram p96: symbols SN74LS273NSR to SN74LS598N]

## SN74LS273NSR
designator U?
Octal D-Type Flip-Flops With Clear, NS0020A, LARGE T&R; Generic Part Number: SN74LS273; Manufacturer: Texas Instruments; PartNumber: SN74LS273NSR; VCC(Min)(V): 4.75; VCC(Max)(V): 5.25; Output Type: TTL; Output: 2S; ICC @ Nom Voltage(Max)(mA): 27; Bits(#): 8; F @ Nom Voltage(Max)(Mhz): 35; Rating: Catalog; Technology Family: LS; Voltage(Nom)(V): 5; Schmitt Trigger: No; Output Drive (IOL/IOH)(Max)(mA): 8/-0.4; Output Logic: Non-inverted; DatasheetVersion: SDLS090; PackageReference: NS0020A; Supplier 1: Digi-Key; Supplier Part Number 1: 296-31856-2-ND; Supplier 2: Digi-Key; Supplier Part Number 2: 296-31856-1-ND; Supplier 3: Digi-Key; Supplier Part Number 3: 296-31856-6-ND; Supplier 4: Newark; Supplier Part Number 4: 76C3777; Supplier 5: Mouser; Supplier Part Number 5: 595-SN74LS273NSR; Input Type: TTL; Operating Temperature Range(C): 0 to 70; 3-State Output: No; tpd @ Nom Voltage(Max)(ns): 27; ComponentLink1Description: Manufacturer URL; ComponentLink1URL: http://www.ti.com/; ComponentLink2Description: Datasheet; ComponentLink2URL: http://www.ti.com/lit/ds/symlink/sn74ls273.pdf; ComponentLink3Description: Package Specification; ComponentLink3URL: http://www.ti.com/lit/ml/msop002a/msop002a.pdf
footprint NS0020A_N (SOIC,20-Leads,Body 12.9x5.6mm,Pitch 1.27mm,IPC Medium Density)
footprint NS0020A_M (SOIC,20-Leads,Body 12.9x5.6mm,Pitch 1.27mm,IPC Low Density)
footprint NS0020A_L (SOIC,20-Leads,Body 12.9x5.6mm,Pitch 1.27mm,IPC High Density)
part A pins: 1 CLR (in) "Clear Pin", 2 1Q (out) "1Q Output", 3 1D (in) "1D Input", 4 2D (in) "2D Input", 5 2Q (out) "2Q Output", 6 3Q (out) "3Q Output", 7 3D (in) "3D Input", 8 4D (in) "4D Input", 9 4Q (out) "4Q Output", 11 CLK (in) "Clock Pin", 12 5Q (out) "5Q Output", 13 5D (in) "5D Input", 14 6D (in) "6D Input", 15 6Q (out) "6Q Output", 16 7Q (out) "7Q Output", 17 7D (in) "7D Input", 18 8D (in) "8D Input", 19 8Q (out) "8Q Output"
part B pins: 10 GND (power) "Ground Pin", 20 VCC (power) "Power Pin"

## SN74LS299DW
designator U?
Universal shift / storage registers, DW0020A, TUBE; Generic Part Number: SN74LS299; Manufacturer: Texas Instruments; PartNumber: SN74LS299DW; Technology Family: LS; VCC(Min)(V): 4.75; VCC(Max)(V): 5.25; Voltage(Nom)(V): 5; F @ Nom Voltage(Max)(Mhz): 35; ICC @ Nom Voltage(Max)(mA): 53; tpd @ Nom Voltage(Max)(ns): 39; Output Drive (IOL/IOH)(Max)(mA): 24/-2.6; Input Type: TTL; 3-State Output: Yes; Rating: Catalog; Bits: 8; DatasheetVersion: SDLS156; PackageReference: DW0020A; Output Type: TTL; Operating Temperature Range(C): 0 to 70; Code_JEDEC: MS-013; ComponentLink1Description: Manufacturer URL; ComponentLink1URL: http://www.ti.com/; ComponentLink2Description: Datasheet; ComponentLink2URL: http://www.ti.com/lit/ds/symlink/sn74ls299.pdf; ComponentLink3Description: Package Specification; ComponentLink3URL: http://www.ti.com/lit/ml/mpds173a/mpds173a.pdf
footprint DW0020A_N (SOIC, 20-Leads, Body 13x7.6mm, Pitch 1.27mm, IPC Medium Density)
footprint DW0020A_M (SOIC, 20-Leads, Body 13x7.6mm, Pitch 1.27mm, IPC Low Density)
footprint DW0020A_L (SOIC, 20-Leads, Body 13x7.6mm, Pitch 1.27mm, IPC High Density)
pins: 1 S0 (in), 2 ~{G}1 (in), 3 ~{G}2 (in), 4 G/QG (io), 5 E/QE (io), 6 C/QC (io), 7 A/QA (io), 8 QA' (out), 9 ~{CLR} (in), 10 GND (power), 11 SR (in), 12 CLK (in), 13 B/QB (io), 14 D/QD (io), 15 F/QF (io), 16 H/QH (io), 17 QH' (out), 18 SL (in), 19 S1 (in), 20 VCC (power)

## SN74LS299N
designator U?
Universal shift / storage registers, N0020A, TUBE; Generic Part Number: SN74LS299; Manufacturer: Texas Instruments; PartNumber: SN74LS299N; Technology Family: LS; VCC(Min)(V): 4.75; VCC(Max)(V): 5.25; Voltage(Nom)(V): 5; F @ Nom Voltage(Max)(Mhz): 35; ICC @ Nom Voltage(Max)(mA): 53; tpd @ Nom Voltage(Max)(ns): 39; Output Drive (IOL/IOH)(Max)(mA): 24/-2.6; Input Type: TTL; 3-State Output: Yes; Rating: Catalog; Bits: 8; DatasheetVersion: SDLS156; PackageReference: N0020A; Output Type: TTL; Operating Temperature Range(C): 0 to 70; Code_JEDEC: MS-001; ComponentLink1Description: Manufacturer URL; ComponentLink1URL: http://www.ti.com/; ComponentLink2Description: Datasheet; ComponentLink2URL: http://www.ti.com/lit/ds/symlink/sn74ls299.pdf; ComponentLink3Description: Package Specification; ComponentLink3URL: http://www.ti.com/lit/ml/mpdi002c/mpdi002c.pdf
footprint N0020A (DIP, 20-Leads, Body 26.9x6.6mm, Pitch 2.54mm)
pins: 1 S0 (in), 2 ~{G}1 (in), 3 ~{G}2 (in), 4 G/QG (io), 5 E/QE (io), 6 C/QC (io), 7 A/QA (io), 8 QA' (out), 9 ~{CLR} (in), 10 GND (power), 11 SR (in), 12 CLK (in), 13 B/QB (io), 14 D/QD (io), 15 F/QF (io), 16 H/QH (io), 17 QH' (out), 18 SL (in), 19 S1 (in), 20 VCC (power)

## SN74LS373DW
designator U?
Octal D-type Transparent Latches with 3-state Outputs, DW0020A, TUBE; Generic Part Number: SN74LS373; Manufacturer: Texas Instruments; PartNumber: SN74LS373DW; VCC(Min)(V): 4.75; VCC(Max)(V): 5.25; Output Type: TTL; Logic: True; Static Current: 40; Bits(#): 8; F @ Nom Voltage(Max)(Mhz): 35; Rating: Catalog; Technology Family: LS; Voltage(Nom)(V): 5; Schmitt Trigger: No; Output Drive (IOL/IOH)(Max)(mA): 24/-2.6; Output Logic: Non-inverted; 3-State Output: Yes; tpd @ Nom Voltage(Max)(ns): 18; DatasheetVersion: SDLS165B; PackageReference: DW0020A; Supplier 1: Digi-Key; Supplier Part Number 1: 296-1659-5-ND; Supplier 2: Farnell; Supplier Part Number 2: 9592407; Supplier 3: Newark; Supplier Part Number 3: 08F7306; Supplier 4: Mouser; Supplier Part Number 4: 595-SN74LS373DW; ICC @ Nom Voltage(Max)(mA): 40; Input Type: TTL; Operating Temperature Range(C): 0 to 70; Code_JEDEC: MS-013; ComponentLink1Description: Manufacturer URL; ComponentLink1URL: http://www.ti.com/; ComponentLink2Description: Datasheet; ComponentLink2URL: http://www.ti.com/lit/ds/symlink/sn74ls373.pdf; ComponentLink3Description: Package Specification; ComponentLink3URL: http://www.ti.com/lit/ml/mpds173a/mpds173a.pdf
footprint DW0020A_N (SOIC, 20-Leads, Body 13x7.6mm, Pitch 1.27mm, IPC Medium Density)
footprint DW0020A_M (SOIC, 20-Leads, Body 13x7.6mm, Pitch 1.27mm, IPC Low Density)
footprint DW0020A_L (SOIC, 20-Leads, Body 13x7.6mm, Pitch 1.27mm, IPC High Density)
pins: 1 ~{OC} (in), 2 1Q (hiz), 3 1D (in), 4 2D (in), 5 2Q (hiz), 6 3Q (hiz), 7 3D (in), 8 4D (in), 9 4Q (hiz), 10 GND (power), 11 C (in), 12 5Q (hiz), 13 5D (in), 14 6D (in), 15 6Q (hiz), 16 7Q (hiz), 17 7D (in), 18 8D (in), 19 8Q (hiz), 20 VCC (power)

## SN74LS373DWR
designator U?
Octal D-type Transparent Latches with 3-state Outputs, DW0020A, LARGE T&R; Generic Part Number: SN74LS373; Manufacturer: Texas Instruments; PartNumber: SN74LS373DWR; VCC(Min)(V): 4.75; VCC(Max)(V): 5.25; Output Type: TTL; Logic: True; Static Current: 40; Bits(#): 8; F @ Nom Voltage(Max)(Mhz): 35; Rating: Catalog; Technology Family: LS; Voltage(Nom)(V): 5; Schmitt Trigger: No; Output Drive (IOL/IOH)(Max)(mA): 24/-2.6; Output Logic: Non-inverted; 3-State Output: Yes; tpd @ Nom Voltage(Max)(ns): 18; DatasheetVersion: SDLS165B; PackageReference: DW0020A; Supplier 1: Digi-Key; Supplier Part Number 1: 296-14893-2-ND; Supplier 2: Digi-Key; Supplier Part Number 2: 296-14893-1-ND; Supplier 3: Digi-Key; Supplier Part Number 3: 296-14893-6-ND; Supplier 4: Newark; Supplier Part Number 4: 76C3811; Supplier 5: Mouser; Supplier Part Number 5: 595-SN74LS373DWR; ICC @ Nom Voltage(Max)(mA): 40; Input Type: TTL; Operating Temperature Range(C): 0 to 70; Code_JEDEC: MS-013; ComponentLink1Description: Manufacturer URL; ComponentLink1URL: http://www.ti.com/; ComponentLink2Description: Datasheet; ComponentLink2URL: http://www.ti.com/lit/ds/symlink/sn74ls373.pdf; ComponentLink3Description: Package Specification; ComponentLink3URL: http://www.ti.com/lit/ml/mpds173a/mpds173a.pdf
footprint DW0020A_N (SOIC, 20-Leads, Body 13x7.6mm, Pitch 1.27mm, IPC Medium Density)
footprint DW0020A_M (SOIC, 20-Leads, Body 13x7.6mm, Pitch 1.27mm, IPC Low Density)
footprint DW0020A_L (SOIC, 20-Leads, Body 13x7.6mm, Pitch 1.27mm, IPC High Density)
pins: 1 ~{OC} (in), 2 1Q (hiz), 3 1D (in), 4 2D (in), 5 2Q (hiz), 6 3Q (hiz), 7 3D (in), 8 4D (in), 9 4Q (hiz), 10 GND (power), 11 C (in), 12 5Q (hiz), 13 5D (in), 14 6D (in), 15 6Q (hiz), 16 7Q (hiz), 17 7D (in), 18 8D (in), 19 8Q (hiz), 20 VCC (power)

## SN74LS373N
designator U?
Octal D-type Transparent Latches with 3-state Outputs, N0020A, TUBE; Generic Part Number: SN74LS373; Manufacturer: Texas Instruments; PartNumber: SN74LS373N; VCC(Min)(V): 4.75; VCC(Max)(V): 5.25; Output Type: TTL; Logic: True; Static Current: 40; Bits(#): 8; F @ Nom Voltage(Max)(Mhz): 35; Rating: Catalog; Technology Family: LS; Voltage(Nom)(V): 5; Schmitt Trigger: No; Output Drive (IOL/IOH)(Max)(mA): 24/-2.6; Output Logic: Non-inverted; 3-State Output: Yes; tpd @ Nom Voltage(Max)(ns): 18; DatasheetVersion: SDLS165B; PackageReference: N0020A; Supplier 1: Digi-Key; Supplier Part Number 1: 296-1660-5-ND; Supplier 2: Farnell; Supplier Part Number 2: 1470892; Supplier 3: Newark; Supplier Part Number 3: 59K9086; Supplier 4: Mouser; Supplier Part Number 4: 595-SN74LS373N; ICC @ Nom Voltage(Max)(mA): 40; Input Type: TTL; Operating Temperature Range(C): 0 to 70; Code_JEDEC: MS-001; ComponentLink1Description: Manufacturer URL; ComponentLink1URL: http://www.ti.com/; ComponentLink2Description: Datasheet; ComponentLink2URL: http://www.ti.com/lit/ds/symlink/sn74ls373.pdf; ComponentLink3Description: Package Specification; ComponentLink3URL: http://www.ti.com/lit/ml/mpdi002c/mpdi002c.pdf
footprint N0020A (DIP, 20-Leads, Body 26.9x6.6mm, Pitch 2.54mm)
pins: 1 ~{OC} (in), 2 1Q (hiz), 3 1D (in), 4 2D (in), 5 2Q (hiz), 6 3Q (hiz), 7 3D (in), 8 4D (in), 9 4Q (hiz), 10 GND (power), 11 C (in), 12 5Q (hiz), 13 5D (in), 14 6D (in), 15 6Q (hiz), 16 7Q (hiz), 17 7D (in), 18 8D (in), 19 8Q (hiz), 20 VCC (power)

## SN74LS373NSR
designator U?
Octal D-type Transparent Latches with 3-state Outputs, NS0020A, LARGE T&R; Generic Part Number: SN74LS373; Manufacturer: Texas Instruments; PartNumber: SN74LS373NSR; VCC(Min)(V): 4.75; VCC(Max)(V): 5.25; Output Type: TTL; Logic: True; Static Current: 40; Bits(#): 8; F @ Nom Voltage(Max)(Mhz): 35; Rating: Catalog; Technology Family: LS; Voltage(Nom)(V): 5; Schmitt Trigger: No; Output Drive (IOL/IOH)(Max)(mA): 24/-2.6; Output Logic: Non-inverted; 3-State Output: Yes; tpd @ Nom Voltage(Max)(ns): 18; DatasheetVersion: SDLS165B; PackageReference: NS0020A; Supplier 1: Digi-Key; Supplier Part Number 1: 296-31857-2-ND; Supplier 2: Digi-Key; Supplier Part Number 2: 296-31857-1-ND; Supplier 3: Digi-Key; Supplier Part Number 3: 296-31857-6-ND; Supplier 4: Newark; Supplier Part Number 4: 76C3812; Supplier 5: Mouser; Supplier Part Number 5: 595-SN74LS373NSR; ICC @ Nom Voltage(Max)(mA): 40; Input Type: TTL; Operating Temperature Range(C): 0 to 70; ComponentLink1Description: Manufacturer URL; ComponentLink1URL: http://www.ti.com/; ComponentLink2Description: Datasheet; ComponentLink2URL: http://www.ti.com/lit/ds/symlink/sn74ls373.pdf; ComponentLink3Description: Package Specification; ComponentLink3URL: http://www.ti.com/lit/ml/msop002a/msop002a.pdf
footprint NS0020A_N (SOIC,20-Leads,Body 12.9x5.6mm,Pitch 1.27mm,IPC Medium Density)
footprint NS0020A_M (SOIC,20-Leads,Body 12.9x5.6mm,Pitch 1.27mm,IPC Low Density)
footprint NS0020A_L (SOIC,20-Leads,Body 12.9x5.6mm,Pitch 1.27mm,IPC High Density)
pins: 1 ~{OC} (in), 2 1Q (hiz), 3 1D (in), 4 2D (in), 5 2Q (hiz), 6 3Q (hiz), 7 3D (in), 8 4D (in), 9 4Q (hiz), 10 GND (power), 11 C (in), 12 5Q (hiz), 13 5D (in), 14 6D (in), 15 6Q (hiz), 16 7Q (hiz), 17 7D (in), 18 8D (in), 19 8Q (hiz), 20 VCC (power)

## SN74LS374DBR
designator U?
Octal D-Type Edge Triggered Flip-Flops with 3-State Outputs, DB0020A, LARGE T&R; Generic Part Number: SN74LS374; Manufacturer: Texas Instruments; PartNumber: SN74LS374DBR; VCC(Min)(V): 4.75; VCC(Max)(V): 5.25; Output Type: TTL; ICC @ Nom Voltage(Max)(mA): 40; Bits(#): 8; F @ Nom Voltage(Max)(Mhz): 35; Rating: Catalog; Technology Family: LS; Voltage(Nom)(V): 5; Schmitt Trigger: No; Output Drive (IOL/IOH)(Max)(mA): 24/-2.6; Output Logic: Non-inverted; 3-State Output: Yes; tpd @ Nom Voltage(Max)(ns): 28; DatasheetVersion: SDLS165B; PackageReference: DB0020A; Supplier 1: Digi-Key; Supplier Part Number 1: 296-28850-2-ND; Supplier 2: Digi-Key; Supplier Part Number 2: 296-28850-1-ND; Supplier 3: Digi-Key; Supplier Part Number 3: 296-28850-6-ND; Supplier 4: Mouser; Supplier Part Number 4: 595-SN74LS374DBR; Input Type: TTL; Operating Temperature Range(C): 0 to 70; Code_JEDEC: MO-150; ComponentLink1Description: Manufacturer URL; ComponentLink1URL: http://www.ti.com/; ComponentLink2Description: Datasheet; ComponentLink2URL: http://www.ti.com/lit/ds/symlink/sn74ls374.pdf; ComponentLink3Description: Package Specification; ComponentLink3URL: http://www.ti.com/lit/ml/mpds508/mpds508.pdf
footprint DB0020A_N (SOP, 20-Leads, Body 5.6x7.5mm, Pitch 0.65mm, IPC Medium Density)
footprint DB0020A_M (SOP, 20-Leads, Body 5.6x7.5mm, Pitch 0.65mm, IPC Low Density)
footprint DB0020A_L (SOP, 20-Leads, Body 5.6x7.5mm, Pitch 0.65mm, IPC High Density)
part A pins: 1 OC (in), 2 1Q (hiz), 3 1D (in), 4 2D (in), 5 2Q (hiz), 6 3Q (hiz), 7 3D (in), 8 4D (in), 9 4Q (hiz), 11 CLK (in), 12 5Q (hiz), 13 5D (in), 14 6D (in), 15 6Q (hiz), 16 7Q (hiz), 17 7D (in), 18 8D (in), 19 8Q (hiz)
part B pins: 10 GND (power), 20 VCC (power)

## SN74LS374DW
designator U?
Octal D-Type Edge Triggered Flip-Flops with 3-State Outputs, DW0020A, TUBE; Generic Part Number: SN74LS374; Manufacturer: Texas Instruments; PartNumber: SN74LS374DW; VCC(Min)(V): 4.75; VCC(Max)(V): 5.25; Output Type: TTL; ICC @ Nom Voltage(Max)(mA): 40; Bits(#): 8; F @ Nom Voltage(Max)(Mhz): 35; Rating: Catalog; Technology Family: LS; Voltage(Nom)(V): 5; Schmitt Trigger: No; Output Drive (IOL/IOH)(Max)(mA): 24/-2.6; Output Logic: Non-inverted; 3-State Output: Yes; tpd @ Nom Voltage(Max)(ns): 28; DatasheetVersion: SDLS165B; PackageReference: DW0020A; Supplier 1: Digi-Key; Supplier Part Number 1: 296-1661-5-ND; Supplier 2: Farnell; Supplier Part Number 2: 9592415; Supplier 3: Newark; Supplier Part Number 3: 08F7314; Supplier 4: Mouser; Supplier Part Number 4: 595-SN74LS374DW; Input Type: TTL; Operating Temperature Range(C): 0 to 70; Code_JEDEC: MS-013; ComponentLink1Description: Manufacturer URL; ComponentLink1URL: http://www.ti.com/; ComponentLink2Description: Datasheet; ComponentLink2URL: http://www.ti.com/lit/ds/symlink/sn74ls374.pdf; ComponentLink3Description: Package Specification; ComponentLink3URL: http://www.ti.com/lit/ml/mpds173a/mpds173a.pdf
footprint DW0020A_N (SOIC, 20-Leads, Body 13x7.6mm, Pitch 1.27mm, IPC Medium Density)
footprint DW0020A_M (SOIC, 20-Leads, Body 13x7.6mm, Pitch 1.27mm, IPC Low Density)
footprint DW0020A_L (SOIC, 20-Leads, Body 13x7.6mm, Pitch 1.27mm, IPC High Density)
part A pins: 1 OC (in), 2 1Q (hiz), 3 1D (in), 4 2D (in), 5 2Q (hiz), 6 3Q (hiz), 7 3D (in), 8 4D (in), 9 4Q (hiz), 11 CLK (in), 12 5Q (hiz), 13 5D (in), 14 6D (in), 15 6Q (hiz), 16 7Q (hiz), 17 7D (in), 18 8D (in), 19 8Q (hiz)
part B pins: 10 GND (power), 20 VCC (power)

## SN74LS374DWR
designator U?
Octal D-Type Edge Triggered Flip-Flops with 3-State Outputs, DW0020A, LARGE T&R; Generic Part Number: SN74LS374; Manufacturer: Texas Instruments; PartNumber: SN74LS374DWR; VCC(Min)(V): 4.75; VCC(Max)(V): 5.25; Output Type: TTL; ICC @ Nom Voltage(Max)(mA): 40; Bits(#): 8; F @ Nom Voltage(Max)(Mhz): 35; Rating: Catalog; Technology Family: LS; Voltage(Nom)(V): 5; Schmitt Trigger: No; Output Drive (IOL/IOH)(Max)(mA): 24/-2.6; Output Logic: Non-inverted; 3-State Output: Yes; tpd @ Nom Voltage(Max)(ns): 28; DatasheetVersion: SDLS165B; PackageReference: DW0020A; Supplier 1: Digi-Key; Supplier Part Number 1: 296-14894-2-ND; Supplier 2: Digi-Key; Supplier Part Number 2: 296-14894-1-ND; Supplier 3: Digi-Key; Supplier Part Number 3: 296-14894-6-ND; Supplier 4: Newark; Supplier Part Number 4: 76C3813; Supplier 5: Mouser; Supplier Part Number 5: 595-SN74LS374DWR; Input Type: TTL; Operating Temperature Range(C): 0 to 70; Code_JEDEC: MS-013; ComponentLink1Description: Manufacturer URL; ComponentLink1URL: http://www.ti.com/; ComponentLink2Description: Datasheet; ComponentLink2URL: http://www.ti.com/lit/ds/symlink/sn74ls374.pdf; ComponentLink3Description: Package Specification; ComponentLink3URL: http://www.ti.com/lit/ml/mpds173a/mpds173a.pdf
footprint DW0020A_N (SOIC, 20-Leads, Body 13x7.6mm, Pitch 1.27mm, IPC Medium Density)
footprint DW0020A_M (SOIC, 20-Leads, Body 13x7.6mm, Pitch 1.27mm, IPC Low Density)
footprint DW0020A_L (SOIC, 20-Leads, Body 13x7.6mm, Pitch 1.27mm, IPC High Density)
part A pins: 1 OC (in), 2 1Q (hiz), 3 1D (in), 4 2D (in), 5 2Q (hiz), 6 3Q (hiz), 7 3D (in), 8 4D (in), 9 4Q (hiz), 11 CLK (in), 12 5Q (hiz), 13 5D (in), 14 6D (in), 15 6Q (hiz), 16 7Q (hiz), 17 7D (in), 18 8D (in), 19 8Q (hiz)
part B pins: 10 GND (power), 20 VCC (power)

## SN74LS374N
designator U?
Octal D-Type Edge Triggered Flip-Flops with 3-State Outputs, N0020A, TUBE; Generic Part Number: SN74LS374; Manufacturer: Texas Instruments; PartNumber: SN74LS374N; VCC(Min)(V): 4.75; VCC(Max)(V): 5.25; Output Type: TTL; ICC @ Nom Voltage(Max)(mA): 40; Bits(#): 8; F @ Nom Voltage(Max)(Mhz): 35; Rating: Catalog; Technology Family: LS; Voltage(Nom)(V): 5; Schmitt Trigger: No; Output Drive (IOL/IOH)(Max)(mA): 24/-2.6; Output Logic: Non-inverted; 3-State Output: Yes; tpd @ Nom Voltage(Max)(ns): 28; DatasheetVersion: SDLS165B; PackageReference: N0020A; Supplier 1: Digi-Key; Supplier Part Number 1: 296-1662-5-ND; Supplier 2: Farnell; Supplier Part Number 2: 1739883; Supplier 3: Newark; Supplier Part Number 3: 60K6883; Supplier 4: Mouser; Supplier Part Number 4: 595-SN74LS374N; Input Type: TTL; Operating Temperature Range(C): 0 to 70; Code_JEDEC: MS-001; ComponentLink1Description: Manufacturer URL; ComponentLink1URL: http://www.ti.com/; ComponentLink2Description: Datasheet; ComponentLink2URL: http://www.ti.com/lit/ds/symlink/sn74ls374.pdf; ComponentLink3Description: Package Specification; ComponentLink3URL: http://www.ti.com/lit/ml/mpdi002c/mpdi002c.pdf
footprint N0020A (DIP, 20-Leads, Body 26.9x6.6mm, Pitch 2.54mm)
part A pins: 1 OC (in), 2 1Q (hiz), 3 1D (in), 4 2D (in), 5 2Q (hiz), 6 3Q (hiz), 7 3D (in), 8 4D (in), 9 4Q (hiz), 11 CLK (in), 12 5Q (hiz), 13 5D (in), 14 6D (in), 15 6Q (hiz), 16 7Q (hiz), 17 7D (in), 18 8D (in), 19 8Q (hiz)
part B pins: 10 GND (power), 20 VCC (power)

## SN74LS374NSR
designator U?
Octal D-Type Edge Triggered Flip-Flops with 3-State Outputs, NS0020A, LARGE T&R; Generic Part Number: SN74LS374; Manufacturer: Texas Instruments; PartNumber: SN74LS374NSR; VCC(Min)(V): 4.75; VCC(Max)(V): 5.25; Output Type: TTL; ICC @ Nom Voltage(Max)(mA): 40; Bits(#): 8; F @ Nom Voltage(Max)(Mhz): 35; Rating: Catalog; Technology Family: LS; Voltage(Nom)(V): 5; Schmitt Trigger: No; Output Drive (IOL/IOH)(Max)(mA): 24/-2.6; Output Logic: Non-inverted; 3-State Output: Yes; tpd @ Nom Voltage(Max)(ns): 28; DatasheetVersion: SDLS165B; PackageReference: NS0020A; Supplier 1: Digi-Key; Supplier Part Number 1: 296-26513-2-ND; Supplier 2: Digi-Key; Supplier Part Number 2: 296-26513-1-ND; Supplier 3: Digi-Key; Supplier Part Number 3: 296-26513-6-ND; Supplier 4: Mouser; Supplier Part Number 4: 595-SN74LS374NSR; Input Type: TTL; Operating Temperature Range(C): 0 to 70; ComponentLink1Description: Manufacturer URL; ComponentLink1URL: http://www.ti.com/; ComponentLink2Description: Datasheet; ComponentLink2URL: http://www.ti.com/lit/ds/symlink/sn74ls374.pdf; ComponentLink3Description: Package Specification; ComponentLink3URL: http://www.ti.com/lit/ml/msop002a/msop002a.pdf
footprint NS0020A_N (SOIC,20-Leads,Body 12.9x5.6mm,Pitch 1.27mm,IPC Medium Density)
footprint NS0020A_M (SOIC,20-Leads,Body 12.9x5.6mm,Pitch 1.27mm,IPC Low Density)
footprint NS0020A_L (SOIC,20-Leads,Body 12.9x5.6mm,Pitch 1.27mm,IPC High Density)
part A pins: 1 OC (in), 2 1Q (hiz), 3 1D (in), 4 2D (in), 5 2Q (hiz), 6 3Q (hiz), 7 3D (in), 8 4D (in), 9 4Q (hiz), 11 CLK (in), 12 5Q (hiz), 13 5D (in), 14 6D (in), 15 6Q (hiz), 16 7Q (hiz), 17 7D (in), 18 8D (in), 19 8Q (hiz)
part B pins: 10 GND (power), 20 VCC (power)

## SN74LS377DW
designator U?
Octal D-Type Flip-Flops With Clock Enable, DW0020A, TUBE; Generic Part Number: SN74LS377; Manufacturer: Texas Instruments; PartNumber: SN74LS377DW; VCC(Min)(V): 4.75; VCC(Max)(V): 5.25; Output Type: TTL; Output: 2S; ICC @ Nom Voltage(Max)(mA): 28; Bits(#): 8; F @ Nom Voltage(Max)(Mhz): 35; Rating: Catalog; Technology Family: LS; Voltage(Nom)(V): 5; Schmitt Trigger: No; Output Drive (IOL/IOH)(Max)(mA): 8/-0.4; Output Logic: Inverted,Non-inverted; tpd @ Nom Voltage(Max)(ns): 27; DatasheetVersion: SDLS167; PackageReference: DW0020A; Supplier 1: Digi-Key; Supplier Part Number 1: 296-34001-5-ND; Supplier 2: Farnell; Supplier Part Number 2: 1752961; Supplier 3: Newark; Supplier Part Number 3: 08F7329; Supplier 4: Mouser; Supplier Part Number 4: 595-SN74LS377DW; Input Type: TTL; Operating Temperature Range(C): 0 to 70; 3-State Output: No; Code_JEDEC: MS-013; ComponentLink1Description: Manufacturer URL; ComponentLink1URL: http://www.ti.com/; ComponentLink2Description: Datasheet; ComponentLink2URL: http://www.ti.com/lit/ds/symlink/sn74ls377.pdf; ComponentLink3Description: Package Specification; ComponentLink3URL: http://www.ti.com/lit/ml/mpds173a/mpds173a.pdf
footprint DW0020A_N (SOIC, 20-Leads, Body 13x7.6mm, Pitch 1.27mm, IPC Medium Density)
footprint DW0020A_M (SOIC, 20-Leads, Body 13x7.6mm, Pitch 1.27mm, IPC Low Density)
footprint DW0020A_L (SOIC, 20-Leads, Body 13x7.6mm, Pitch 1.27mm, IPC High Density)
part A pins: 1 G (in), 2 1Q (out), 3 1D (in), 4 2D (in), 5 2Q (out), 6 3Q (out), 7 3D (in), 8 4D (in), 9 4Q (out), 11 CLK (in), 12 5Q (out), 13 5D (in), 14 6D (in), 15 6Q (out), 16 7Q (out), 17 7D (in), 18 8D (in), 19 8Q (out)
part B pins: 10 GND (power), 20 VCC (power)